# Altium schematic symbol library Components - 31.03.22 - 06.58.SchLib: 1 symbol
Pins are listed as number, name and electrical type; pins without a type are passive.

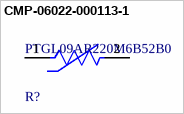
[diagram p0: symbol CMP-06022-000113-1]

## CMP-06022-000113-1
designator R?, comment PTGL09AR220M6B52B0
Thermistors - PTC 22ohm +/-20% PTC Thermistor; Trip Current: 290mA; Hold Current: 175mA; Resistance: 22R; Current Rating: 800uA; Voltage: 125V; Tolerance: 20%; Max Power Dissipation: 1.8W; Max Current Rating: 800mA; Lead Pitch: 5mm; Case/Package: Radial; Weight: 0.013051oz; Termination: Radial; Diameter: 10mm; Depth: 5.5mm; Radiation Hardening: No; Min Operating Temperature: -10°C; Max Operating Temperature: 60°C; Packaging: Bulk; Number of Pins: 2; Thickness: 5.5mm; Mount: Through Hole; Package Quantity: 300
footprint FP-PGTL_P5_D10_T5_5_H16_d-MFG
pins: 1, 2